# Altium schematic symbol library GENERIC_FUSE_MECHANICAL.SchLib: 1 symbol
Pins are listed as number, name and electrical type; pins without a type are passive.

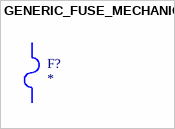
[diagram p0: symbol GENERIC_FUSE_MECHANICAL]

## GENERIC_FUSE_MECHANICAL
designator F?  (mechanical)